# Altium footprint library KNOWLES_SPU.PcbLib: 1 footprints
Each footprint in its own frame and in the unit in brackets; x right, y up, seen from the top. Pads: shape width x height; smd on the part's side, far side on the other; paste and mask are expansions set on the pad; w line width, h text height; cw(c..) or ccw(c..) is an arc to the next point about the centre after c.
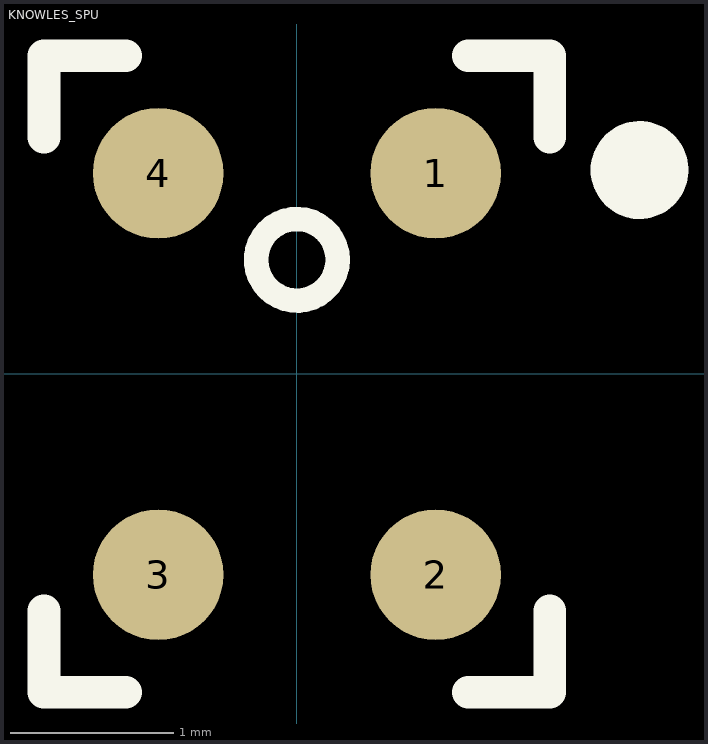
[diagram p0: the footprint, top view; thin cyan lines are the x and y axes]

## KNOWLES_SPU [mm] "Knowles SPU Microphone"
pads (4):
  round 0.8 smd: 1(0.85,1.23) 2(0.85,-1.23) 3(-0.85,-1.23) 4(-0.85,1.23)
Top Overlay:
  circle w0.15: c0,0.7 r0.25
  circle w0.3: c2.1,1.25 r0.15
  lines w0.2: -1.55,-1.45 -1.55,-1.95 -1.05,-1.95 ; -1.55,1.45 -1.55,1.95 -1.05,1.95 ; 1.05,-1.95 1.55,-1.95 1.55,-1.45 ; 1.05,1.95 1.55,1.95 1.55,1.45
3D body "KNOWLES_SPU.SLDPRT": height 1.1, standoff 0, extent -1.475,-1.88 1.475,1.88